# Altium schematic symbol library Fasteners & Fixing.SchLib: 3 symbols
Pins are listed as number, name and electrical type; pins without a type are passive.

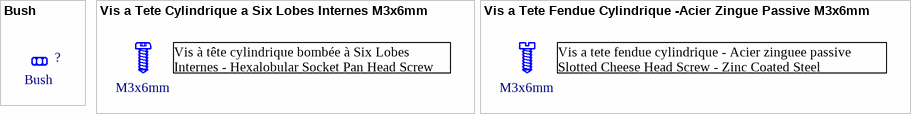
[diagram p0: symbols Bush to Vis a Tete Fendue Cylindrique -Acier Zingue Passive M3x6mm]

## Bush
designator ?  (graphical)

## Vis a Tete Cylindrique a Six Lobes Internes M3x6mm
designator ?  (value not drawn)  (mechanical)
Vis a Tete Cylindrique a Six Lobes Internes
text: Vis à tête cylindrique bombée à Six Lobes Internes - Hexalobular Socket Pan Head Screw; M3x6mm

## Vis a Tete Fendue Cylindrique -Acier Zingue Passive M3x6mm
designator ?  (value not drawn)  (mechanical)
Vis a Tete Fendue Cylindrique -Acier Zingue M3x6mm
text: Vis a tete fendue cylindrique - Acier zinguee passive / Slotted Cheese Head Screw - Zinc Coated Steel PASSIVATED; M3x6mm